# Altium schematic symbol library kmilo17pet-LT_OpAmp_LT2000.SchLib: 1710 symbols (part 57 of 75)
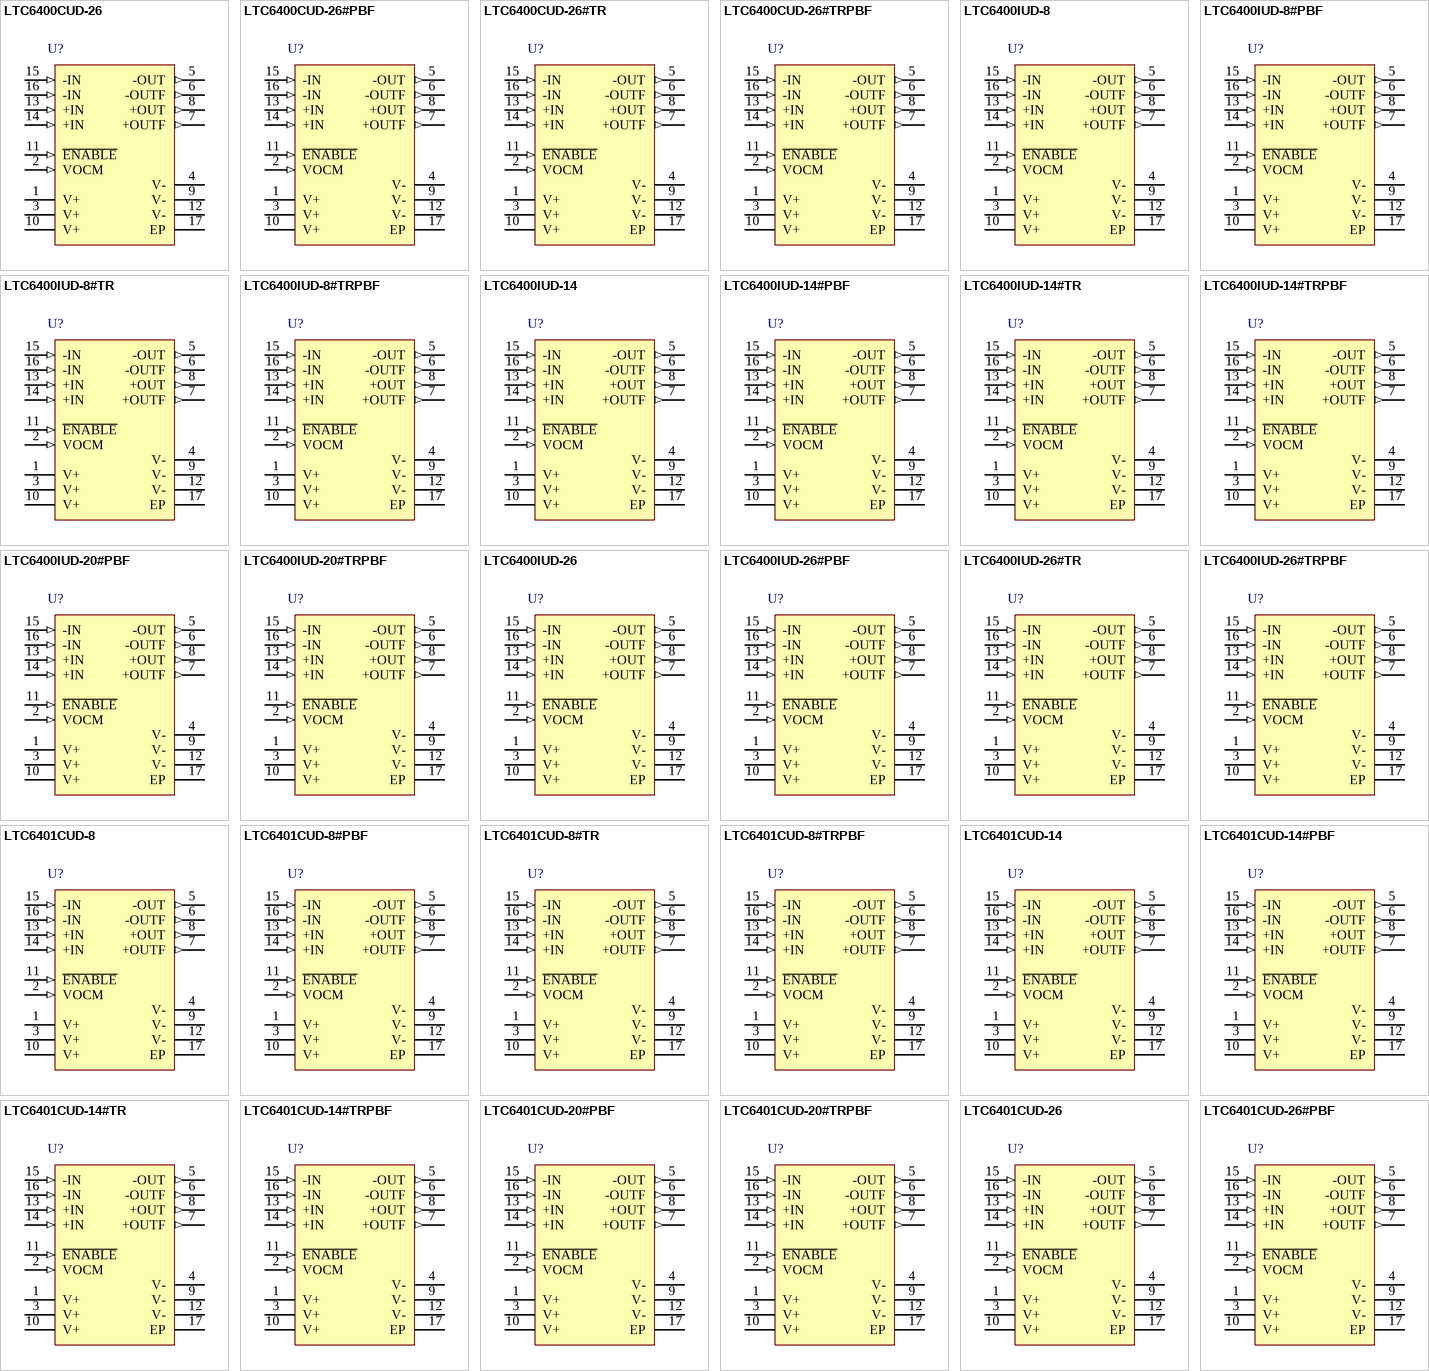
[diagram p136: symbols LTC6400CUD-26 to LTC6401CUD-26#PBF]

## LTC6401CUD-8#TRPBF
designator U?
Single Channel, Low Noise, Low Distortion Differential ADC Driver for DC-140 MHz, 2200 MHz Typical GBW, 3400 V/us Typical SR, 2.85 to 3.5 V, 16-Pin QFN (UD-16), Commercial, Pb-Free, Reel; Linear Technology Part Number: LTC6401-8; Manufacturer: Linear Technology; PartNumber: LTC6401CUD-8#TRPBF; Channels (#): 1; GBW (MHz) Typical: 2200; Is (mA) Typical: 45; SR (V/us) Typical: 3400; Vos (mV) Typical: 4; Vs Max (V): 3.5; Vs Min (V): 2.85; PackageReference: LT-UD-16; PackageDescription: 16-Lead Plastic QFN, Body 3.00 x 3.00 mm, Pitch 0.5 mm; Supplier 1: Digi-Key; Supplier Part Number 1: LTC6401CUD-8#TRPBF-ND; Supplier 2: Newark; Supplier Part Number 2: 75M4554; Packing: Reel; RoHS: Pb-Free; Type: DIFF; Mounting Technology: Surface Mount; Code_JEDEC: MO-220; ComponentLink1Description: Manufacturer URL; ComponentLink1URL: http://www.linear.com/; ComponentLink2Description: Datasheet; ComponentLink2URL: http://cds.linear.com/docs/en/datasheet/64018f.pdf; ComponentLink3Description: Package Specification; ComponentLink3URL: http://cds.linear.com/docs/en/packaging/QFN_16_05-08-1691.pdf
footprint LT-UD-16_N (QFN, 16-Leads, Body 3x3mm, Pitch 0.5mm, Thermal Pad 1.45x1.45mm, IPC Medium Density)
footprint LT-UD-16_L (QFN, 16-Leads, Body 3x3mm, Pitch 0.5mm, Thermal Pad 1.45x1.45mm, IPC High Density)
footprint LT-UD-16_M (QFN, 16-Leads, Body 3x3mm, Pitch 0.5mm, Thermal Pad 1.45x1.45mm, IPC Low Density)
pins: 1 V+ (power) "Positive Power Supply (Normally tied to 3V or 3.3V). All three pins must be tied to the same voltage. Bypass each pin with 1000pF and 0.1uF capacitors as close to the pins as possible.", 2 VOCM (in) "This pin sets the output common mode voltage. A 0.1uF external bypass capacitor is recommended.", 3 V+ (power) "Positive Power Supply (Normally tied to 3V or 3.3V). All three pins must be tied to the same voltage. Bypass each pin with 1000pF and 0.1uF capacitors as close to the pins as possible.", 4 V- (power) "Negative Power Supply. All four pins must be connected to the same voltage/ground.", 5 -OUT (out) "Unfiltered Outputs. These pins have 12.5ohm series resistors.", 6 -OUTF (out) "Filtered Outputs. These pins have 50ohm series resistors and a 1.7pF shunt capacitance.", 7 +OUTF (out) "Filtered Outputs. These pins have 50ohm series resistors and a 1.7pF shunt capacitance.", 8 +OUT (out) "Unfiltered Outputs. These pins have 12.5ohm series resistors.", 9 V- (power) "Negative Power Supply. All four pins must be connected to the same voltage/ground.", 10 V+ (power) "Positive Power Supply (Normally tied to 3V or 3.3V). All three pins must be tied to the same voltage. Bypass each pin with 1000pF and 0.1uF capacitors as close to the pins as possible.", 11 ~{ENABLE} (in) "This pin is a logic input referenced to V-. If low, the part is enabled. If high, the part is disabled and draws approximately 1mA supply current.", 12 V- (power) "Negative Power Supply. All four pins must be connected to the same voltage/ground.", 13 +IN (in) "Positive Input. Pins 13 and 14 are internally shorted together.", 14 +IN (in) "Positive Input. Pins 13 and 14 are internally shorted together.", 15 -IN (in) "Negative Input. Pins 15 and 16 are internally shorted together.", 16 -IN (in) "Negative Input. Pins 15 and 16 are internally shorted together.", 17 EP (power) "The Exposed Pad must be connected to the same voltage/ground as pins 4, 9, 12."

## LTC6401CUD-14
designator U?
Single Channel, Low Noise, Low Distortion Differential ADC Driver for DC-140 MHz, 2000 MHz Typical GBW, 3600 V/us Typical SR, 2.85 to 3.5 V, 16-Pin QFN (UD-16), Commercial; Linear Technology Part Number: LTC6401-14; Manufacturer: Linear Technology; PartNumber: LTC6401CUD-14; Channels (#): 1; GBW (MHz) Typical: 2000; Is (mA) Typical: 45; SR (V/us) Typical: 3600; Vos (mV) Typical: 3; Vs Max (V): 3.5; Vs Min (V): 2.85; PackageReference: LT-UD-16; PackageDescription: 16-Lead Plastic QFN, Body 3.00 x 3.00 mm, Pitch 0.5 mm; Type: DIFF; Mounting Technology: Surface Mount; Code_JEDEC: MO-220; ComponentLink1Description: Manufacturer URL; ComponentLink1URL: http://www.linear.com/; ComponentLink2Description: Datasheet; ComponentLink2URL: http://cds.linear.com/docs/en/datasheet/640114f.pdf; ComponentLink3Description: Package Specification; ComponentLink3URL: http://cds.linear.com/docs/en/packaging/QFN_16_05-08-1691.pdf
footprint LT-UD-16_N (QFN, 16-Leads, Body 3x3mm, Pitch 0.5mm, Thermal Pad 1.45x1.45mm, IPC Medium Density)
footprint LT-UD-16_L (QFN, 16-Leads, Body 3x3mm, Pitch 0.5mm, Thermal Pad 1.45x1.45mm, IPC High Density)
footprint LT-UD-16_M (QFN, 16-Leads, Body 3x3mm, Pitch 0.5mm, Thermal Pad 1.45x1.45mm, IPC Low Density)
pins: 1 V+ (power) "Positive Power Supply (Normally tied to 3V or 3.3V). All three pins must be tied to the same voltage. Bypass each pin with 1000pF and 0.1uF capacitors as close to the pins as possible.", 2 VOCM (in) "This pin sets the output common mode voltage. A 0.1uF external bypass capacitor is recommended.", 3 V+ (power) "Positive Power Supply (Normally tied to 3V or 3.3V). All three pins must be tied to the same voltage. Bypass each pin with 1000pF and 0.1uF capacitors as close to the pins as possible.", 4 V- (power) "Negative Power Supply. All four pins must be connected to the same voltage/ground.", 5 -OUT (out) "Unfiltered Outputs. These pins have 12.5ohm series resistors.", 6 -OUTF (out) "Filtered Outputs. These pins have 50ohm series resistors and a 1.7pF shunt capacitance.", 7 +OUTF (out) "Filtered Outputs. These pins have 50ohm series resistors and a 1.7pF shunt capacitance.", 8 +OUT (out) "Unfiltered Outputs. These pins have 12.5ohm series resistors.", 9 V- (power) "Negative Power Supply. All four pins must be connected to the same voltage/ground.", 10 V+ (power) "Positive Power Supply (Normally tied to 3V or 3.3V). All three pins must be tied to the same voltage. Bypass each pin with 1000pF and 0.1uF capacitors as close to the pins as possible.", 11 ~{ENABLE} (in) "This pin is a logic input referenced to V-. If low, the part is enabled. If high, the part is disabled and draws approximately 1mA supply current.", 12 V- (power) "Negative Power Supply. All four pins must be connected to the same voltage/ground.", 13 +IN (in) "Positive Input. Pins 13 and 14 are internally shorted together.", 14 +IN (in) "Positive Input. Pins 13 and 14 are internally shorted together.", 15 -IN (in) "Negative Input. Pins 15 and 16 are internally shorted together.", 16 -IN (in) "Negative Input. Pins 15 and 16 are internally shorted together.", 17 EP (power) "The Exposed Pad must be connected to the same voltage/ground as pins 4, 9, 12."

## LTC6401CUD-14#PBF
designator U?
Single Channel, Low Noise, Low Distortion Differential ADC Driver for DC-140 MHz, 2000 MHz Typical GBW, 3600 V/us Typical SR, 2.85 to 3.5 V, 16-Pin QFN (UD-16), Commercial, Pb-Free; Linear Technology Part Number: LTC6401-14; Manufacturer: Linear Technology; PartNumber: LTC6401CUD-14#PBF; Channels (#): 1; GBW (MHz) Typical: 2000; Is (mA) Typical: 45; SR (V/us) Typical: 3600; Vos (mV) Typical: 3; Vs Max (V): 3.5; Vs Min (V): 2.85; PackageReference: LT-UD-16; PackageDescription: 16-Lead Plastic QFN, Body 3.00 x 3.00 mm, Pitch 0.5 mm; Supplier 1: Digi-Key; Supplier Part Number 1: LTC6401CUD-14#PBF-ND; Supplier 2: Newark; Supplier Part Number 2: 95M6528; RoHS: Pb-Free; Type: DIFF; Mounting Technology: Surface Mount; Code_JEDEC: MO-220; ComponentLink1Description: Manufacturer URL; ComponentLink1URL: http://www.linear.com/; ComponentLink2Description: Datasheet; ComponentLink2URL: http://cds.linear.com/docs/en/datasheet/640114f.pdf; ComponentLink3Description: Package Specification; ComponentLink3URL: http://cds.linear.com/docs/en/packaging/QFN_16_05-08-1691.pdf
footprint LT-UD-16_N (QFN, 16-Leads, Body 3x3mm, Pitch 0.5mm, Thermal Pad 1.45x1.45mm, IPC Medium Density)
footprint LT-UD-16_L (QFN, 16-Leads, Body 3x3mm, Pitch 0.5mm, Thermal Pad 1.45x1.45mm, IPC High Density)
footprint LT-UD-16_M (QFN, 16-Leads, Body 3x3mm, Pitch 0.5mm, Thermal Pad 1.45x1.45mm, IPC Low Density)
pins: 1 V+ (power) "Positive Power Supply (Normally tied to 3V or 3.3V). All three pins must be tied to the same voltage. Bypass each pin with 1000pF and 0.1uF capacitors as close to the pins as possible.", 2 VOCM (in) "This pin sets the output common mode voltage. A 0.1uF external bypass capacitor is recommended.", 3 V+ (power) "Positive Power Supply (Normally tied to 3V or 3.3V). All three pins must be tied to the same voltage. Bypass each pin with 1000pF and 0.1uF capacitors as close to the pins as possible.", 4 V- (power) "Negative Power Supply. All four pins must be connected to the same voltage/ground.", 5 -OUT (out) "Unfiltered Outputs. These pins have 12.5ohm series resistors.", 6 -OUTF (out) "Filtered Outputs. These pins have 50ohm series resistors and a 1.7pF shunt capacitance.", 7 +OUTF (out) "Filtered Outputs. These pins have 50ohm series resistors and a 1.7pF shunt capacitance.", 8 +OUT (out) "Unfiltered Outputs. These pins have 12.5ohm series resistors.", 9 V- (power) "Negative Power Supply. All four pins must be connected to the same voltage/ground.", 10 V+ (power) "Positive Power Supply (Normally tied to 3V or 3.3V). All three pins must be tied to the same voltage. Bypass each pin with 1000pF and 0.1uF capacitors as close to the pins as possible.", 11 ~{ENABLE} (in) "This pin is a logic input referenced to V-. If low, the part is enabled. If high, the part is disabled and draws approximately 1mA supply current.", 12 V- (power) "Negative Power Supply. All four pins must be connected to the same voltage/ground.", 13 +IN (in) "Positive Input. Pins 13 and 14 are internally shorted together.", 14 +IN (in) "Positive Input. Pins 13 and 14 are internally shorted together.", 15 -IN (in) "Negative Input. Pins 15 and 16 are internally shorted together.", 16 -IN (in) "Negative Input. Pins 15 and 16 are internally shorted together.", 17 EP (power) "The Exposed Pad must be connected to the same voltage/ground as pins 4, 9, 12."

## LTC6401CUD-14#TR
designator U?
Single Channel, Low Noise, Low Distortion Differential ADC Driver for DC-140 MHz, 2000 MHz Typical GBW, 3600 V/us Typical SR, 2.85 to 3.5 V, 16-Pin QFN (UD-16), Commercial, Reel; Linear Technology Part Number: LTC6401-14; Manufacturer: Linear Technology; PartNumber: LTC6401CUD-14#TR; Channels (#): 1; GBW (MHz) Typical: 2000; Is (mA) Typical: 45; SR (V/us) Typical: 3600; Vos (mV) Typical: 3; Vs Max (V): 3.5; Vs Min (V): 2.85; PackageReference: LT-UD-16; PackageDescription: 16-Lead Plastic QFN, Body 3.00 x 3.00 mm, Pitch 0.5 mm; Supplier 1: Newark; Supplier Part Number 1: 95M6529; Packing: Reel; Type: DIFF; Mounting Technology: Surface Mount; Code_JEDEC: MO-220; ComponentLink1Description: Manufacturer URL; ComponentLink1URL: http://www.linear.com/; ComponentLink2Description: Datasheet; ComponentLink2URL: http://cds.linear.com/docs/en/datasheet/640114f.pdf; ComponentLink3Description: Package Specification; ComponentLink3URL: http://cds.linear.com/docs/en/packaging/QFN_16_05-08-1691.pdf
footprint LT-UD-16_N (QFN, 16-Leads, Body 3x3mm, Pitch 0.5mm, Thermal Pad 1.45x1.45mm, IPC Medium Density)
footprint LT-UD-16_L (QFN, 16-Leads, Body 3x3mm, Pitch 0.5mm, Thermal Pad 1.45x1.45mm, IPC High Density)
footprint LT-UD-16_M (QFN, 16-Leads, Body 3x3mm, Pitch 0.5mm, Thermal Pad 1.45x1.45mm, IPC Low Density)
pins: 1 V+ (power) "Positive Power Supply (Normally tied to 3V or 3.3V). All three pins must be tied to the same voltage. Bypass each pin with 1000pF and 0.1uF capacitors as close to the pins as possible.", 2 VOCM (in) "This pin sets the output common mode voltage. A 0.1uF external bypass capacitor is recommended.", 3 V+ (power) "Positive Power Supply (Normally tied to 3V or 3.3V). All three pins must be tied to the same voltage. Bypass each pin with 1000pF and 0.1uF capacitors as close to the pins as possible.", 4 V- (power) "Negative Power Supply. All four pins must be connected to the same voltage/ground.", 5 -OUT (out) "Unfiltered Outputs. These pins have 12.5ohm series resistors.", 6 -OUTF (out) "Filtered Outputs. These pins have 50ohm series resistors and a 1.7pF shunt capacitance.", 7 +OUTF (out) "Filtered Outputs. These pins have 50ohm series resistors and a 1.7pF shunt capacitance.", 8 +OUT (out) "Unfiltered Outputs. These pins have 12.5ohm series resistors.", 9 V- (power) "Negative Power Supply. All four pins must be connected to the same voltage/ground.", 10 V+ (power) "Positive Power Supply (Normally tied to 3V or 3.3V). All three pins must be tied to the same voltage. Bypass each pin with 1000pF and 0.1uF capacitors as close to the pins as possible.", 11 ~{ENABLE} (in) "This pin is a logic input referenced to V-. If low, the part is enabled. If high, the part is disabled and draws approximately 1mA supply current.", 12 V- (power) "Negative Power Supply. All four pins must be connected to the same voltage/ground.", 13 +IN (in) "Positive Input. Pins 13 and 14 are internally shorted together.", 14 +IN (in) "Positive Input. Pins 13 and 14 are internally shorted together.", 15 -IN (in) "Negative Input. Pins 15 and 16 are internally shorted together.", 16 -IN (in) "Negative Input. Pins 15 and 16 are internally shorted together.", 17 EP (power) "The Exposed Pad must be connected to the same voltage/ground as pins 4, 9, 12."

## LTC6401CUD-14#TRPBF
designator U?
Single Channel, Low Noise, Low Distortion Differential ADC Driver for DC-140 MHz, 2000 MHz Typical GBW, 3600 V/us Typical SR, 2.85 to 3.5 V, 16-Pin QFN (UD-16), Commercial, Pb-Free, Reel; Linear Technology Part Number: LTC6401-14; Manufacturer: Linear Technology; PartNumber: LTC6401CUD-14#TRPBF; Channels (#): 1; GBW (MHz) Typical: 2000; Is (mA) Typical: 45; SR (V/us) Typical: 3600; Vos (mV) Typical: 3; Vs Max (V): 3.5; Vs Min (V): 2.85; PackageReference: LT-UD-16; PackageDescription: 16-Lead Plastic QFN, Body 3.00 x 3.00 mm, Pitch 0.5 mm; Supplier 1: Digi-Key; Supplier Part Number 1: LTC6401CUD-14#TRPBF-ND; Supplier 2: Newark; Supplier Part Number 2: 95M6530; Packing: Reel; RoHS: Pb-Free; Type: DIFF; Mounting Technology: Surface Mount; Code_JEDEC: MO-220; ComponentLink1Description: Manufacturer URL; ComponentLink1URL: http://www.linear.com/; ComponentLink2Description: Datasheet; ComponentLink2URL: http://cds.linear.com/docs/en/datasheet/640114f.pdf; ComponentLink3Description: Package Specification; ComponentLink3URL: http://cds.linear.com/docs/en/packaging/QFN_16_05-08-1691.pdf
footprint LT-UD-16_N (QFN, 16-Leads, Body 3x3mm, Pitch 0.5mm, Thermal Pad 1.45x1.45mm, IPC Medium Density)
footprint LT-UD-16_L (QFN, 16-Leads, Body 3x3mm, Pitch 0.5mm, Thermal Pad 1.45x1.45mm, IPC High Density)
footprint LT-UD-16_M (QFN, 16-Leads, Body 3x3mm, Pitch 0.5mm, Thermal Pad 1.45x1.45mm, IPC Low Density)
pins: 1 V+ (power) "Positive Power Supply (Normally tied to 3V or 3.3V). All three pins must be tied to the same voltage. Bypass each pin with 1000pF and 0.1uF capacitors as close to the pins as possible.", 2 VOCM (in) "This pin sets the output common mode voltage. A 0.1uF external bypass capacitor is recommended.", 3 V+ (power) "Positive Power Supply (Normally tied to 3V or 3.3V). All three pins must be tied to the same voltage. Bypass each pin with 1000pF and 0.1uF capacitors as close to the pins as possible.", 4 V- (power) "Negative Power Supply. All four pins must be connected to the same voltage/ground.", 5 -OUT (out) "Unfiltered Outputs. These pins have 12.5ohm series resistors.", 6 -OUTF (out) "Filtered Outputs. These pins have 50ohm series resistors and a 1.7pF shunt capacitance.", 7 +OUTF (out) "Filtered Outputs. These pins have 50ohm series resistors and a 1.7pF shunt capacitance.", 8 +OUT (out) "Unfiltered Outputs. These pins have 12.5ohm series resistors.", 9 V- (power) "Negative Power Supply. All four pins must be connected to the same voltage/ground.", 10 V+ (power) "Positive Power Supply (Normally tied to 3V or 3.3V). All three pins must be tied to the same voltage. Bypass each pin with 1000pF and 0.1uF capacitors as close to the pins as possible.", 11 ~{ENABLE} (in) "This pin is a logic input referenced to V-. If low, the part is enabled. If high, the part is disabled and draws approximately 1mA supply current.", 12 V- (power) "Negative Power Supply. All four pins must be connected to the same voltage/ground.", 13 +IN (in) "Positive Input. Pins 13 and 14 are internally shorted together.", 14 +IN (in) "Positive Input. Pins 13 and 14 are internally shorted together.", 15 -IN (in) "Negative Input. Pins 15 and 16 are internally shorted together.", 16 -IN (in) "Negative Input. Pins 15 and 16 are internally shorted together.", 17 EP (power) "The Exposed Pad must be connected to the same voltage/ground as pins 4, 9, 12."

## LTC6401CUD-20#PBF
designator U?
Single Channel, Low Noise, Low Distortion Differential ADC Driver for 140 MHz IF, 1300 MHz Typical GBW, 4500 V/us Typical SR, 2.85 to 3.5 V, 16-Pin QFN (UD-16), Commercial, Pb-Free; Linear Technology Part Number: LTC6401-20; Manufacturer: Linear Technology; PartNumber: LTC6401CUD-20#PBF; Channels (#): 1; GBW (MHz) Typical: 1300; Is (mA) Typical: 50; SR (V/us) Typical: 4500; Vos (mV) Typical: 2; Vs Max (V): 3.5; Vs Min (V): 2.85; PackageReference: LT-UD-16; PackageDescription: 16-Lead Plastic QFN, Body 3.00 x 3.00 mm, Pitch 0.5 mm; Supplier 1: Digi-Key; Supplier Part Number 1: LTC6401CUD-20#PBF-ND; Supplier 2: Newark; Supplier Part Number 2: 57M0114; RoHS: Pb-Free; Type: DIFF; Mounting Technology: Surface Mount; Code_JEDEC: MO-220; ComponentLink1Description: Manufacturer URL; ComponentLink1URL: http://www.linear.com/; ComponentLink2Description: Datasheet; ComponentLink2URL: http://cds.linear.com/docs/en/datasheet/640120f.pdf; ComponentLink3Description: Package Specification; ComponentLink3URL: http://cds.linear.com/docs/en/packaging/QFN_16_05-08-1691.pdf
footprint LT-UD-16_N (QFN, 16-Leads, Body 3x3mm, Pitch 0.5mm, Thermal Pad 1.45x1.45mm, IPC Medium Density)
footprint LT-UD-16_L (QFN, 16-Leads, Body 3x3mm, Pitch 0.5mm, Thermal Pad 1.45x1.45mm, IPC High Density)
footprint LT-UD-16_M (QFN, 16-Leads, Body 3x3mm, Pitch 0.5mm, Thermal Pad 1.45x1.45mm, IPC Low Density)
pins: 1 V+ (power) "Positive Power Supply (Normally tied to 3V or 3.3V). All three pins must be tied to the same voltage. Bypass each pin with 1000pF and 0.1uF capacitors as close to the pins as possible.", 2 VOCM (in) "This pin sets the output common mode voltage. A 0.1uF external bypass capacitor is recommended.", 3 V+ (power) "Positive Power Supply (Normally tied to 3V or 3.3V). All three pins must be tied to the same voltage. Bypass each pin with 1000pF and 0.1uF capacitors as close to the pins as possible.", 4 V- (power) "Negative Power Supply. All four pins must be connected to the same voltage/ground.", 5 -OUT (out) "Unfiltered Outputs. These pins have 12.5ohm series resistors.", 6 -OUTF (out) "Filtered Outputs. These pins have 50ohm series resistors and a 1.7pF shunt capacitance.", 7 +OUTF (out) "Filtered Outputs. These pins have 50ohm series resistors and a 1.7pF shunt capacitance.", 8 +OUT (out) "Unfiltered Outputs. These pins have 12.5ohm series resistors.", 9 V- (power) "Negative Power Supply. All four pins must be connected to the same voltage/ground.", 10 V+ (power) "Positive Power Supply (Normally tied to 3V or 3.3V). All three pins must be tied to the same voltage. Bypass each pin with 1000pF and 0.1uF capacitors as close to the pins as possible.", 11 ~{ENABLE} (in) "This pin is a logic input referenced to V-. If low, the part is enabled. If high, the part is disabled and draws approximately 1mA supply current.", 12 V- (power) "Negative Power Supply. All four pins must be connected to the same voltage/ground.", 13 +IN (in) "Positive Input. Pins 13 and 14 are internally shorted together.", 14 +IN (in) "Positive Input. Pins 13 and 14 are internally shorted together.", 15 -IN (in) "Negative Input. Pins 15 and 16 are internally shorted together.", 16 -IN (in) "Negative Input. Pins 15 and 16 are internally shorted together.", 17 EP (power) "The Exposed Pad must be connected to the same voltage/ground as pins 4, 9, 12."

## LTC6401CUD-20#TRPBF
designator U?
Single Channel, Low Noise, Low Distortion Differential ADC Driver for 140 MHz IF, 1300 MHz Typical GBW, 4500 V/us Typical SR, 2.85 to 3.5 V, 16-Pin QFN (UD-16), Commercial, Pb-Free, Reel; Linear Technology Part Number: LTC6401-20; Manufacturer: Linear Technology; PartNumber: LTC6401CUD-20#TRPBF; Channels (#): 1; GBW (MHz) Typical: 1300; Is (mA) Typical: 50; SR (V/us) Typical: 4500; Vos (mV) Typical: 2; Vs Max (V): 3.5; Vs Min (V): 2.85; PackageReference: LT-UD-16; PackageDescription: 16-Lead Plastic QFN, Body 3.00 x 3.00 mm, Pitch 0.5 mm; Supplier 1: Digi-Key; Supplier Part Number 1: LTC6401CUD-20#TRPBF-ND; Supplier 2: Newark; Supplier Part Number 2: 57M0115; Packing: Reel; RoHS: Pb-Free; Type: DIFF; Mounting Technology: Surface Mount; Code_JEDEC: MO-220; ComponentLink1Description: Manufacturer URL; ComponentLink1URL: http://www.linear.com/; ComponentLink2Description: Datasheet; ComponentLink2URL: http://cds.linear.com/docs/en/datasheet/640120f.pdf; ComponentLink3Description: Package Specification; ComponentLink3URL: http://cds.linear.com/docs/en/packaging/QFN_16_05-08-1691.pdf
footprint LT-UD-16_N (QFN, 16-Leads, Body 3x3mm, Pitch 0.5mm, Thermal Pad 1.45x1.45mm, IPC Medium Density)
footprint LT-UD-16_L (QFN, 16-Leads, Body 3x3mm, Pitch 0.5mm, Thermal Pad 1.45x1.45mm, IPC High Density)
footprint LT-UD-16_M (QFN, 16-Leads, Body 3x3mm, Pitch 0.5mm, Thermal Pad 1.45x1.45mm, IPC Low Density)
pins: 1 V+ (power) "Positive Power Supply (Normally tied to 3V or 3.3V). All three pins must be tied to the same voltage. Bypass each pin with 1000pF and 0.1uF capacitors as close to the pins as possible.", 2 VOCM (in) "This pin sets the output common mode voltage. A 0.1uF external bypass capacitor is recommended.", 3 V+ (power) "Positive Power Supply (Normally tied to 3V or 3.3V). All three pins must be tied to the same voltage. Bypass each pin with 1000pF and 0.1uF capacitors as close to the pins as possible.", 4 V- (power) "Negative Power Supply. All four pins must be connected to the same voltage/ground.", 5 -OUT (out) "Unfiltered Outputs. These pins have 12.5ohm series resistors.", 6 -OUTF (out) "Filtered Outputs. These pins have 50ohm series resistors and a 1.7pF shunt capacitance.", 7 +OUTF (out) "Filtered Outputs. These pins have 50ohm series resistors and a 1.7pF shunt capacitance.", 8 +OUT (out) "Unfiltered Outputs. These pins have 12.5ohm series resistors.", 9 V- (power) "Negative Power Supply. All four pins must be connected to the same voltage/ground.", 10 V+ (power) "Positive Power Supply (Normally tied to 3V or 3.3V). All three pins must be tied to the same voltage. Bypass each pin with 1000pF and 0.1uF capacitors as close to the pins as possible.", 11 ~{ENABLE} (in) "This pin is a logic input referenced to V-. If low, the part is enabled. If high, the part is disabled and draws approximately 1mA supply current.", 12 V- (power) "Negative Power Supply. All four pins must be connected to the same voltage/ground.", 13 +IN (in) "Positive Input. Pins 13 and 14 are internally shorted together.", 14 +IN (in) "Positive Input. Pins 13 and 14 are internally shorted together.", 15 -IN (in) "Negative Input. Pins 15 and 16 are internally shorted together.", 16 -IN (in) "Negative Input. Pins 15 and 16 are internally shorted together.", 17 EP (power) "The Exposed Pad must be connected to the same voltage/ground as pins 4, 9, 12."

## LTC6401CUD-26
designator U?
Single Channel, Low Noise, Low Distortion Differential ADC Driver for DC-140 MHz, 1600 MHz Typical GBW, 3300 V/us Typical SR, 2.85 to 3.5 V, 16-Pin QFN (UD-16), Commercial; Linear Technology Part Number: LTC6401-26; Manufacturer: Linear Technology; PartNumber: LTC6401CUD-26; Channels (#): 1; GBW (MHz) Typical: 1600; Is (mA) Typical: 45; SR (V/us) Typical: 3300; Vos (mV) Typical: 2.5; Vs Max (V): 3.5; Vs Min (V): 2.85; PackageReference: LT-UD-16; PackageDescription: 16-Lead Plastic QFN, Body 3.00 x 3.00 mm, Pitch 0.5 mm; Type: DIFF; Mounting Technology: Surface Mount; Code_JEDEC: MO-220; ComponentLink1Description: Manufacturer URL; ComponentLink1URL: http://www.linear.com/; ComponentLink2Description: Datasheet; ComponentLink2URL: http://cds.linear.com/docs/en/datasheet/640126f.pdf; ComponentLink3Description: Package Specification; ComponentLink3URL: http://cds.linear.com/docs/en/packaging/QFN_16_05-08-1691.pdf
footprint LT-UD-16_N (QFN, 16-Leads, Body 3x3mm, Pitch 0.5mm, Thermal Pad 1.45x1.45mm, IPC Medium Density)
footprint LT-UD-16_L (QFN, 16-Leads, Body 3x3mm, Pitch 0.5mm, Thermal Pad 1.45x1.45mm, IPC High Density)
footprint LT-UD-16_M (QFN, 16-Leads, Body 3x3mm, Pitch 0.5mm, Thermal Pad 1.45x1.45mm, IPC Low Density)
pins: 1 V+ (power) "Positive Power Supply (Normally tied to 3V or 3.3V). All three pins must be tied to the same voltage. Bypass each pin with 1000pF and 0.1uF capacitors as close to the pins as possible.", 2 VOCM (in) "This pin sets the output common mode voltage. A 0.1uF external bypass capacitor is recommended.", 3 V+ (power) "Positive Power Supply (Normally tied to 3V or 3.3V). All three pins must be tied to the same voltage. Bypass each pin with 1000pF and 0.1uF capacitors as close to the pins as possible.", 4 V- (power) "Negative Power Supply. All four pins must be connected to the same voltage/ground.", 5 -OUT (out) "Unfiltered Outputs. These pins have 12.5ohm series resistors.", 6 -OUTF (out) "Filtered Outputs. These pins have 50ohm series resistors and a 1.7pF shunt capacitance.", 7 +OUTF (out) "Filtered Outputs. These pins have 50ohm series resistors and a 1.7pF shunt capacitance.", 8 +OUT (out) "Unfiltered Outputs. These pins have 12.5ohm series resistors.", 9 V- (power) "Negative Power Supply. All four pins must be connected to the same voltage/ground.", 10 V+ (power) "Positive Power Supply (Normally tied to 3V or 3.3V). All three pins must be tied to the same voltage. Bypass each pin with 1000pF and 0.1uF capacitors as close to the pins as possible.", 11 ~{ENABLE} (in) "This pin is a logic input referenced to V-. If low, the part is enabled. If high, the part is disabled and draws approximately 1mA supply current.", 12 V- (power) "Negative Power Supply. All four pins must be connected to the same voltage/ground.", 13 +IN (in) "Positive Input. Pins 13 and 14 are internally shorted together.", 14 +IN (in) "Positive Input. Pins 13 and 14 are internally shorted together.", 15 -IN (in) "Negative Input. Pins 15 and 16 are internally shorted together.", 16 -IN (in) "Negative Input. Pins 15 and 16 are internally shorted together.", 17 EP (power) "The Exposed Pad must be connected to the same voltage/ground as pins 4, 9, 12."

## LTC6401CUD-26#PBF
designator U?
Single Channel, Low Noise, Low Distortion Differential ADC Driver for DC-140 MHz, 1600 MHz Typical GBW, 3300 V/us Typical SR, 2.85 to 3.5 V, 16-Pin QFN (UD-16), Commercial, Pb-Free; Linear Technology Part Number: LTC6401-26; Manufacturer: Linear Technology; PartNumber: LTC6401CUD-26#PBF; Channels (#): 1; GBW (MHz) Typical: 1600; Is (mA) Typical: 45; SR (V/us) Typical: 3300; Vos (mV) Typical: 2.5; Vs Max (V): 3.5; Vs Min (V): 2.85; PackageReference: LT-UD-16; PackageDescription: 16-Lead Plastic QFN, Body 3.00 x 3.00 mm, Pitch 0.5 mm; Supplier 1: Digi-Key; Supplier Part Number 1: LTC6401CUD-26#PBF-ND; Supplier 2: Newark; Supplier Part Number 2: 57M0117; RoHS: Pb-Free; Type: DIFF; Mounting Technology: Surface Mount; Code_JEDEC: MO-220; ComponentLink1Description: Manufacturer URL; ComponentLink1URL: http://www.linear.com/; ComponentLink2Description: Datasheet; ComponentLink2URL: http://cds.linear.com/docs/en/datasheet/640126f.pdf; ComponentLink3Description: Package Specification; ComponentLink3URL: http://cds.linear.com/docs/en/packaging/QFN_16_05-08-1691.pdf
footprint LT-UD-16_N (QFN, 16-Leads, Body 3x3mm, Pitch 0.5mm, Thermal Pad 1.45x1.45mm, IPC Medium Density)
footprint LT-UD-16_L (QFN, 16-Leads, Body 3x3mm, Pitch 0.5mm, Thermal Pad 1.45x1.45mm, IPC High Density)
footprint LT-UD-16_M (QFN, 16-Leads, Body 3x3mm, Pitch 0.5mm, Thermal Pad 1.45x1.45mm, IPC Low Density)
pins: 1 V+ (power) "Positive Power Supply (Normally tied to 3V or 3.3V). All three pins must be tied to the same voltage. Bypass each pin with 1000pF and 0.1uF capacitors as close to the pins as possible.", 2 VOCM (in) "This pin sets the output common mode voltage. A 0.1uF external bypass capacitor is recommended.", 3 V+ (power) "Positive Power Supply (Normally tied to 3V or 3.3V). All three pins must be tied to the same voltage. Bypass each pin with 1000pF and 0.1uF capacitors as close to the pins as possible.", 4 V- (power) "Negative Power Supply. All four pins must be connected to the same voltage/ground.", 5 -OUT (out) "Unfiltered Outputs. These pins have 12.5ohm series resistors.", 6 -OUTF (out) "Filtered Outputs. These pins have 50ohm series resistors and a 1.7pF shunt capacitance.", 7 +OUTF (out) "Filtered Outputs. These pins have 50ohm series resistors and a 1.7pF shunt capacitance.", 8 +OUT (out) "Unfiltered Outputs. These pins have 12.5ohm series resistors.", 9 V- (power) "Negative Power Supply. All four pins must be connected to the same voltage/ground.", 10 V+ (power) "Positive Power Supply (Normally tied to 3V or 3.3V). All three pins must be tied to the same voltage. Bypass each pin with 1000pF and 0.1uF capacitors as close to the pins as possible.", 11 ~{ENABLE} (in) "This pin is a logic input referenced to V-. If low, the part is enabled. If high, the part is disabled and draws approximately 1mA supply current.", 12 V- (power) "Negative Power Supply. All four pins must be connected to the same voltage/ground.", 13 +IN (in) "Positive Input. Pins 13 and 14 are internally shorted together.", 14 +IN (in) "Positive Input. Pins 13 and 14 are internally shorted together.", 15 -IN (in) "Negative Input. Pins 15 and 16 are internally shorted together.", 16 -IN (in) "Negative Input. Pins 15 and 16 are internally shorted together.", 17 EP (power) "The Exposed Pad must be connected to the same voltage/ground as pins 4, 9, 12."

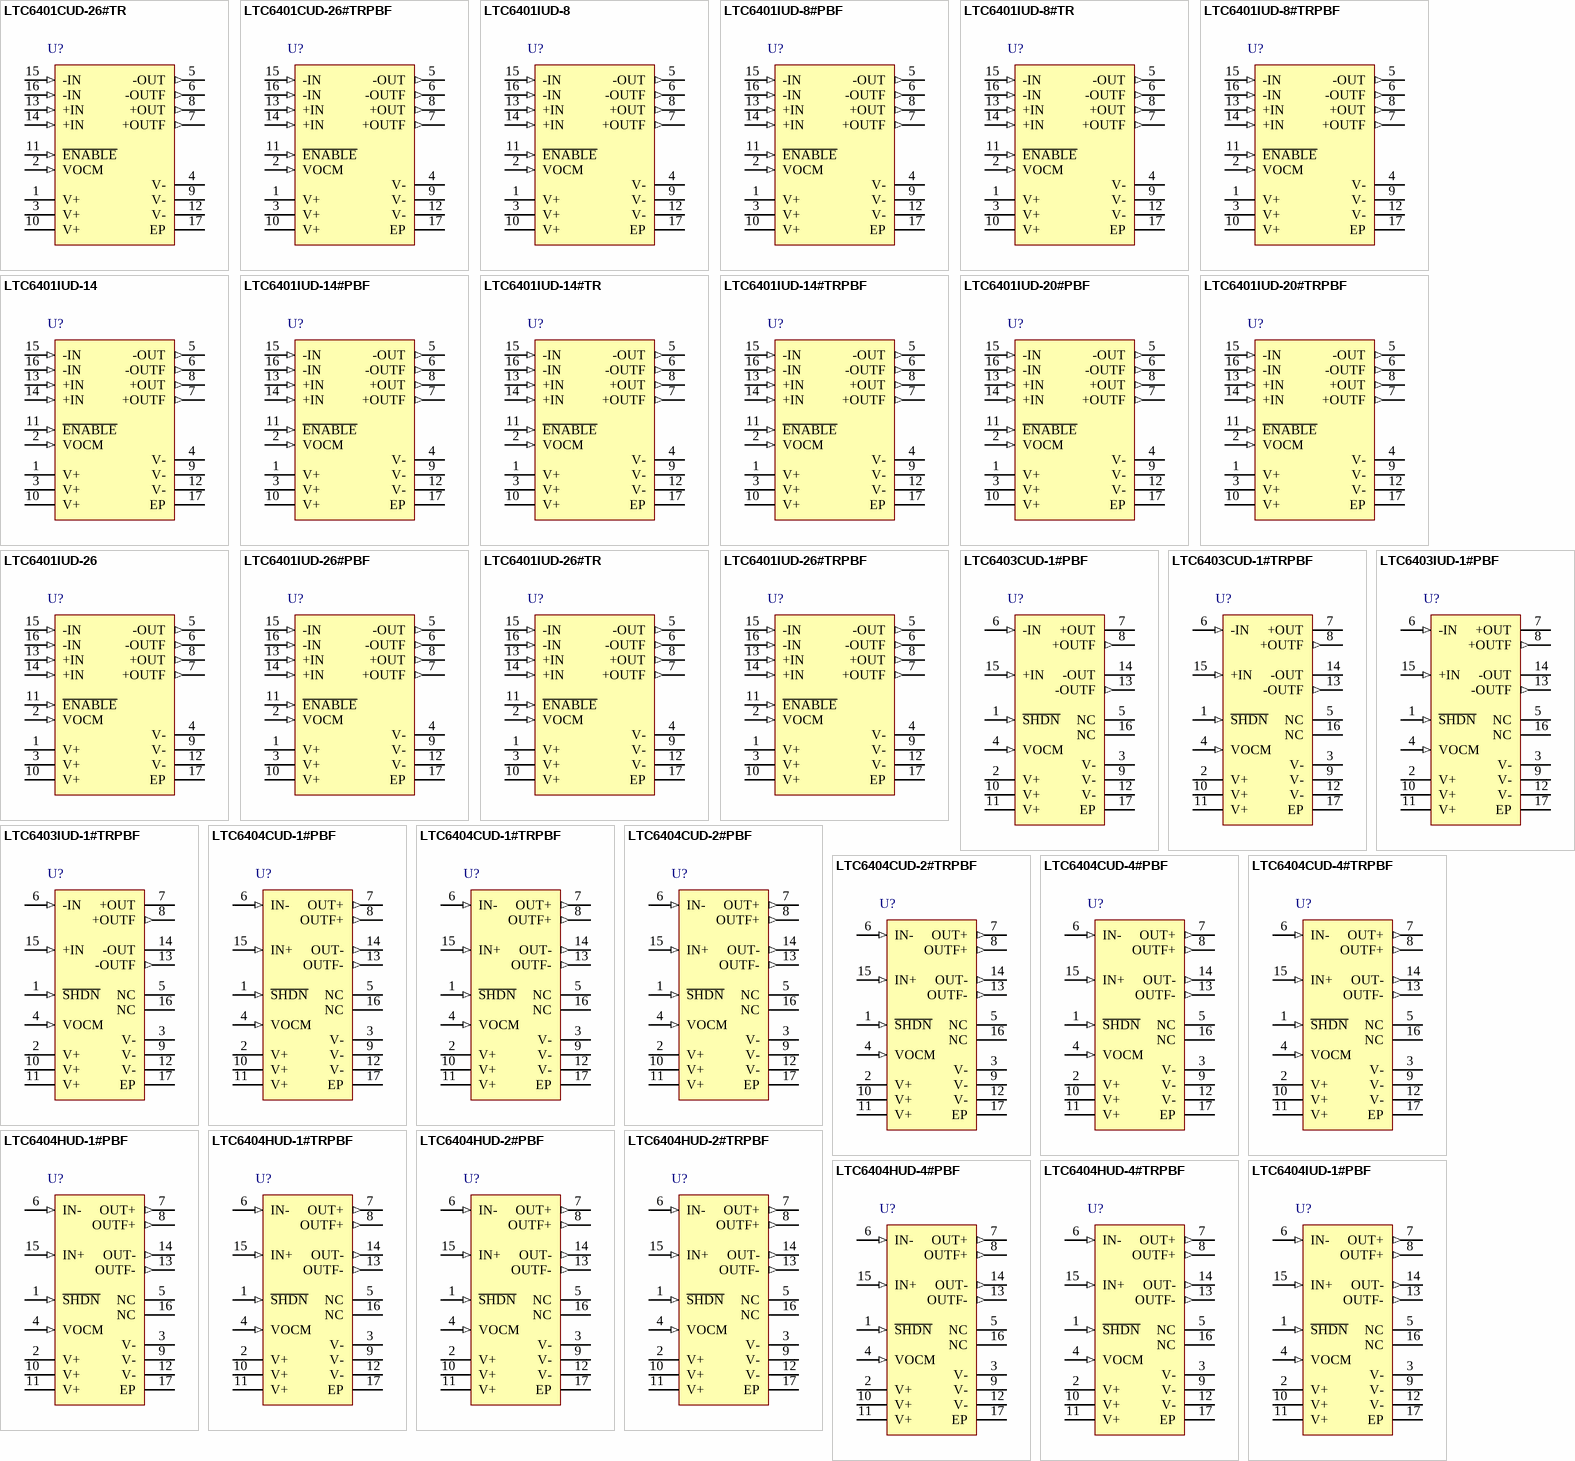
[diagram p73: symbols LTC6401CUD-26#TR to LTC6404IUD-1#PBF]

## LTC6401CUD-26#TR
designator U?
Single Channel, Low Noise, Low Distortion Differential ADC Driver for DC-140 MHz, 1600 MHz Typical GBW, 3300 V/us Typical SR, 2.85 to 3.5 V, 16-Pin QFN (UD-16), Commercial, Reel; Linear Technology Part Number: LTC6401-26; Manufacturer: Linear Technology; PartNumber: LTC6401CUD-26#TR; Channels (#): 1; GBW (MHz) Typical: 1600; Is (mA) Typical: 45; SR (V/us) Typical: 3300; Vos (mV) Typical: 2.5; Vs Max (V): 3.5; Vs Min (V): 2.85; PackageReference: LT-UD-16; PackageDescription: 16-Lead Plastic QFN, Body 3.00 x 3.00 mm, Pitch 0.5 mm; Supplier 1: Newark; Supplier Part Number 1: 57M0118; Packing: Reel; Type: DIFF; Mounting Technology: Surface Mount; Code_JEDEC: MO-220; ComponentLink1Description: Manufacturer URL; ComponentLink1URL: http://www.linear.com/; ComponentLink2Description: Datasheet; ComponentLink2URL: http://cds.linear.com/docs/en/datasheet/640126f.pdf; ComponentLink3Description: Package Specification; ComponentLink3URL: http://cds.linear.com/docs/en/packaging/QFN_16_05-08-1691.pdf
footprint LT-UD-16_N (QFN, 16-Leads, Body 3x3mm, Pitch 0.5mm, Thermal Pad 1.45x1.45mm, IPC Medium Density)
footprint LT-UD-16_L (QFN, 16-Leads, Body 3x3mm, Pitch 0.5mm, Thermal Pad 1.45x1.45mm, IPC High Density)
footprint LT-UD-16_M (QFN, 16-Leads, Body 3x3mm, Pitch 0.5mm, Thermal Pad 1.45x1.45mm, IPC Low Density)
pins: 1 V+ (power) "Positive Power Supply (Normally tied to 3V or 3.3V). All three pins must be tied to the same voltage. Bypass each pin with 1000pF and 0.1uF capacitors as close to the pins as possible.", 2 VOCM (in) "This pin sets the output common mode voltage. A 0.1uF external bypass capacitor is recommended.", 3 V+ (power) "Positive Power Supply (Normally tied to 3V or 3.3V). All three pins must be tied to the same voltage. Bypass each pin with 1000pF and 0.1uF capacitors as close to the pins as possible.", 4 V- (power) "Negative Power Supply. All four pins must be connected to the same voltage/ground.", 5 -OUT (out) "Unfiltered Outputs. These pins have 12.5ohm series resistors.", 6 -OUTF (out) "Filtered Outputs. These pins have 50ohm series resistors and a 1.7pF shunt capacitance.", 7 +OUTF (out) "Filtered Outputs. These pins have 50ohm series resistors and a 1.7pF shunt capacitance.", 8 +OUT (out) "Unfiltered Outputs. These pins have 12.5ohm series resistors.", 9 V- (power) "Negative Power Supply. All four pins must be connected to the same voltage/ground.", 10 V+ (power) "Positive Power Supply (Normally tied to 3V or 3.3V). All three pins must be tied to the same voltage. Bypass each pin with 1000pF and 0.1uF capacitors as close to the pins as possible.", 11 ~{ENABLE} (in) "This pin is a logic input referenced to V-. If low, the part is enabled. If high, the part is disabled and draws approximately 1mA supply current.", 12 V- (power) "Negative Power Supply. All four pins must be connected to the same voltage/ground.", 13 +IN (in) "Positive Input. Pins 13 and 14 are internally shorted together.", 14 +IN (in) "Positive Input. Pins 13 and 14 are internally shorted together.", 15 -IN (in) "Negative Input. Pins 15 and 16 are internally shorted together.", 16 -IN (in) "Negative Input. Pins 15 and 16 are internally shorted together.", 17 EP (power) "The Exposed Pad must be connected to the same voltage/ground as pins 4, 9, 12."

## LTC6401CUD-26#TRPBF
designator U?
Single Channel, Low Noise, Low Distortion Differential ADC Driver for DC-140 MHz, 1600 MHz Typical GBW, 3300 V/us Typical SR, 2.85 to 3.5 V, 16-Pin QFN (UD-16), Commercial, Pb-Free, Reel; Linear Technology Part Number: LTC6401-26; Manufacturer: Linear Technology; PartNumber: LTC6401CUD-26#TRPBF; Channels (#): 1; GBW (MHz) Typical: 1600; Is (mA) Typical: 45; SR (V/us) Typical: 3300; Vos (mV) Typical: 2.5; Vs Max (V): 3.5; Vs Min (V): 2.85; PackageReference: LT-UD-16; PackageDescription: 16-Lead Plastic QFN, Body 3.00 x 3.00 mm, Pitch 0.5 mm; Supplier 1: Digi-Key; Supplier Part Number 1: LTC6401CUD-26#TRPBF-ND; Supplier 2: Newark; Supplier Part Number 2: 57M0119; Packing: Reel; RoHS: Pb-Free; Type: DIFF; Mounting Technology: Surface Mount; Code_JEDEC: MO-220; ComponentLink1Description: Manufacturer URL; ComponentLink1URL: http://www.linear.com/; ComponentLink2Description: Datasheet; ComponentLink2URL: http://cds.linear.com/docs/en/datasheet/640126f.pdf; ComponentLink3Description: Package Specification; ComponentLink3URL: http://cds.linear.com/docs/en/packaging/QFN_16_05-08-1691.pdf
footprint LT-UD-16_N (QFN, 16-Leads, Body 3x3mm, Pitch 0.5mm, Thermal Pad 1.45x1.45mm, IPC Medium Density)
footprint LT-UD-16_L (QFN, 16-Leads, Body 3x3mm, Pitch 0.5mm, Thermal Pad 1.45x1.45mm, IPC High Density)
footprint LT-UD-16_M (QFN, 16-Leads, Body 3x3mm, Pitch 0.5mm, Thermal Pad 1.45x1.45mm, IPC Low Density)
pins: 1 V+ (power) "Positive Power Supply (Normally tied to 3V or 3.3V). All three pins must be tied to the same voltage. Bypass each pin with 1000pF and 0.1uF capacitors as close to the pins as possible.", 2 VOCM (in) "This pin sets the output common mode voltage. A 0.1uF external bypass capacitor is recommended.", 3 V+ (power) "Positive Power Supply (Normally tied to 3V or 3.3V). All three pins must be tied to the same voltage. Bypass each pin with 1000pF and 0.1uF capacitors as close to the pins as possible.", 4 V- (power) "Negative Power Supply. All four pins must be connected to the same voltage/ground.", 5 -OUT (out) "Unfiltered Outputs. These pins have 12.5ohm series resistors.", 6 -OUTF (out) "Filtered Outputs. These pins have 50ohm series resistors and a 1.7pF shunt capacitance.", 7 +OUTF (out) "Filtered Outputs. These pins have 50ohm series resistors and a 1.7pF shunt capacitance.", 8 +OUT (out) "Unfiltered Outputs. These pins have 12.5ohm series resistors.", 9 V- (power) "Negative Power Supply. All four pins must be connected to the same voltage/ground.", 10 V+ (power) "Positive Power Supply (Normally tied to 3V or 3.3V). All three pins must be tied to the same voltage. Bypass each pin with 1000pF and 0.1uF capacitors as close to the pins as possible.", 11 ~{ENABLE} (in) "This pin is a logic input referenced to V-. If low, the part is enabled. If high, the part is disabled and draws approximately 1mA supply current.", 12 V- (power) "Negative Power Supply. All four pins must be connected to the same voltage/ground.", 13 +IN (in) "Positive Input. Pins 13 and 14 are internally shorted together.", 14 +IN (in) "Positive Input. Pins 13 and 14 are internally shorted together.", 15 -IN (in) "Negative Input. Pins 15 and 16 are internally shorted together.", 16 -IN (in) "Negative Input. Pins 15 and 16 are internally shorted together.", 17 EP (power) "The Exposed Pad must be connected to the same voltage/ground as pins 4, 9, 12."

## LTC6401IUD-8
designator U?
Single Channel, Low Noise, Low Distortion Differential ADC Driver for DC-140 MHz, 2200 MHz Typical GBW, 3400 V/us Typical SR, 2.85 to 3.5 V, 16-Pin QFN (UD-16), Industrial; Linear Technology Part Number: LTC6401-8; Manufacturer: Linear Technology; PartNumber: LTC6401IUD-8; Channels (#): 1; GBW (MHz) Typical: 2200; Is (mA) Typical: 45; SR (V/us) Typical: 3400; Vos (mV) Typical: 4; Vs Max (V): 3.5; Vs Min (V): 2.85; PackageReference: LT-UD-16; PackageDescription: 16-Lead Plastic QFN, Body 3.00 x 3.00 mm, Pitch 0.5 mm; Type: DIFF; Mounting Technology: Surface Mount; Code_JEDEC: MO-220; ComponentLink1Description: Manufacturer URL; ComponentLink1URL: http://www.linear.com/; ComponentLink2Description: Datasheet; ComponentLink2URL: http://cds.linear.com/docs/en/datasheet/64018f.pdf; ComponentLink3Description: Package Specification; ComponentLink3URL: http://cds.linear.com/docs/en/packaging/QFN_16_05-08-1691.pdf
footprint LT-UD-16_N (QFN, 16-Leads, Body 3x3mm, Pitch 0.5mm, Thermal Pad 1.45x1.45mm, IPC Medium Density)
footprint LT-UD-16_L (QFN, 16-Leads, Body 3x3mm, Pitch 0.5mm, Thermal Pad 1.45x1.45mm, IPC High Density)
footprint LT-UD-16_M (QFN, 16-Leads, Body 3x3mm, Pitch 0.5mm, Thermal Pad 1.45x1.45mm, IPC Low Density)
pins: 1 V+ (power) "Positive Power Supply (Normally tied to 3V or 3.3V). All three pins must be tied to the same voltage. Bypass each pin with 1000pF and 0.1uF capacitors as close to the pins as possible.", 2 VOCM (in) "This pin sets the output common mode voltage. A 0.1uF external bypass capacitor is recommended.", 3 V+ (power) "Positive Power Supply (Normally tied to 3V or 3.3V). All three pins must be tied to the same voltage. Bypass each pin with 1000pF and 0.1uF capacitors as close to the pins as possible.", 4 V- (power) "Negative Power Supply. All four pins must be connected to the same voltage/ground.", 5 -OUT (out) "Unfiltered Outputs. These pins have 12.5ohm series resistors.", 6 -OUTF (out) "Filtered Outputs. These pins have 50ohm series resistors and a 1.7pF shunt capacitance.", 7 +OUTF (out) "Filtered Outputs. These pins have 50ohm series resistors and a 1.7pF shunt capacitance.", 8 +OUT (out) "Unfiltered Outputs. These pins have 12.5ohm series resistors.", 9 V- (power) "Negative Power Supply. All four pins must be connected to the same voltage/ground.", 10 V+ (power) "Positive Power Supply (Normally tied to 3V or 3.3V). All three pins must be tied to the same voltage. Bypass each pin with 1000pF and 0.1uF capacitors as close to the pins as possible.", 11 ~{ENABLE} (in) "This pin is a logic input referenced to V-. If low, the part is enabled. If high, the part is disabled and draws approximately 1mA supply current.", 12 V- (power) "Negative Power Supply. All four pins must be connected to the same voltage/ground.", 13 +IN (in) "Positive Input. Pins 13 and 14 are internally shorted together.", 14 +IN (in) "Positive Input. Pins 13 and 14 are internally shorted together.", 15 -IN (in) "Negative Input. Pins 15 and 16 are internally shorted together.", 16 -IN (in) "Negative Input. Pins 15 and 16 are internally shorted together.", 17 EP (power) "The Exposed Pad must be connected to the same voltage/ground as pins 4, 9, 12."

## LTC6401IUD-8#PBF
designator U?
Single Channel, Low Noise, Low Distortion Differential ADC Driver for DC-140 MHz, 2200 MHz Typical GBW, 3400 V/us Typical SR, 2.85 to 3.5 V, 16-Pin QFN (UD-16), Industrial, Pb-Free; Linear Technology Part Number: LTC6401-8; Manufacturer: Linear Technology; PartNumber: LTC6401IUD-8#PBF; Channels (#): 1; GBW (MHz) Typical: 2200; Is (mA) Typical: 45; SR (V/us) Typical: 3400; Vos (mV) Typical: 4; Vs Max (V): 3.5; Vs Min (V): 2.85; PackageReference: LT-UD-16; PackageDescription: 16-Lead Plastic QFN, Body 3.00 x 3.00 mm, Pitch 0.5 mm; Supplier 1: Digi-Key; Supplier Part Number 1: LTC6401IUD-8#PBF-ND; Supplier 2: Newark; Supplier Part Number 2: 75M4556; RoHS: Pb-Free; Type: DIFF; Mounting Technology: Surface Mount; Code_JEDEC: MO-220; ComponentLink1Description: Manufacturer URL; ComponentLink1URL: http://www.linear.com/; ComponentLink2Description: Datasheet; ComponentLink2URL: http://cds.linear.com/docs/en/datasheet/64018f.pdf; ComponentLink3Description: Package Specification; ComponentLink3URL: http://cds.linear.com/docs/en/packaging/QFN_16_05-08-1691.pdf
footprint LT-UD-16_N (QFN, 16-Leads, Body 3x3mm, Pitch 0.5mm, Thermal Pad 1.45x1.45mm, IPC Medium Density)
footprint LT-UD-16_L (QFN, 16-Leads, Body 3x3mm, Pitch 0.5mm, Thermal Pad 1.45x1.45mm, IPC High Density)
footprint LT-UD-16_M (QFN, 16-Leads, Body 3x3mm, Pitch 0.5mm, Thermal Pad 1.45x1.45mm, IPC Low Density)
pins: 1 V+ (power) "Positive Power Supply (Normally tied to 3V or 3.3V). All three pins must be tied to the same voltage. Bypass each pin with 1000pF and 0.1uF capacitors as close to the pins as possible.", 2 VOCM (in) "This pin sets the output common mode voltage. A 0.1uF external bypass capacitor is recommended.", 3 V+ (power) "Positive Power Supply (Normally tied to 3V or 3.3V). All three pins must be tied to the same voltage. Bypass each pin with 1000pF and 0.1uF capacitors as close to the pins as possible.", 4 V- (power) "Negative Power Supply. All four pins must be connected to the same voltage/ground.", 5 -OUT (out) "Unfiltered Outputs. These pins have 12.5ohm series resistors.", 6 -OUTF (out) "Filtered Outputs. These pins have 50ohm series resistors and a 1.7pF shunt capacitance.", 7 +OUTF (out) "Filtered Outputs. These pins have 50ohm series resistors and a 1.7pF shunt capacitance.", 8 +OUT (out) "Unfiltered Outputs. These pins have 12.5ohm series resistors.", 9 V- (power) "Negative Power Supply. All four pins must be connected to the same voltage/ground.", 10 V+ (power) "Positive Power Supply (Normally tied to 3V or 3.3V). All three pins must be tied to the same voltage. Bypass each pin with 1000pF and 0.1uF capacitors as close to the pins as possible.", 11 ~{ENABLE} (in) "This pin is a logic input referenced to V-. If low, the part is enabled. If high, the part is disabled and draws approximately 1mA supply current.", 12 V- (power) "Negative Power Supply. All four pins must be connected to the same voltage/ground.", 13 +IN (in) "Positive Input. Pins 13 and 14 are internally shorted together.", 14 +IN (in) "Positive Input. Pins 13 and 14 are internally shorted together.", 15 -IN (in) "Negative Input. Pins 15 and 16 are internally shorted together.", 16 -IN (in) "Negative Input. Pins 15 and 16 are internally shorted together.", 17 EP (power) "The Exposed Pad must be connected to the same voltage/ground as pins 4, 9, 12."

## LTC6401IUD-8#TR
designator U?
Single Channel, Low Noise, Low Distortion Differential ADC Driver for DC-140 MHz, 2200 MHz Typical GBW, 3400 V/us Typical SR, 2.85 to 3.5 V, 16-Pin QFN (UD-16), Industrial, Reel; Linear Technology Part Number: LTC6401-8; Manufacturer: Linear Technology; PartNumber: LTC6401IUD-8#TR; Channels (#): 1; GBW (MHz) Typical: 2200; Is (mA) Typical: 45; SR (V/us) Typical: 3400; Vos (mV) Typical: 4; Vs Max (V): 3.5; Vs Min (V): 2.85; PackageReference: LT-UD-16; PackageDescription: 16-Lead Plastic QFN, Body 3.00 x 3.00 mm, Pitch 0.5 mm; Packing: Reel; Type: DIFF; Mounting Technology: Surface Mount; Code_JEDEC: MO-220; ComponentLink1Description: Manufacturer URL; ComponentLink1URL: http://www.linear.com/; ComponentLink2Description: Datasheet; ComponentLink2URL: http://cds.linear.com/docs/en/datasheet/64018f.pdf; ComponentLink3Description: Package Specification; ComponentLink3URL: http://cds.linear.com/docs/en/packaging/QFN_16_05-08-1691.pdf
footprint LT-UD-16_N (QFN, 16-Leads, Body 3x3mm, Pitch 0.5mm, Thermal Pad 1.45x1.45mm, IPC Medium Density)
footprint LT-UD-16_L (QFN, 16-Leads, Body 3x3mm, Pitch 0.5mm, Thermal Pad 1.45x1.45mm, IPC High Density)
footprint LT-UD-16_M (QFN, 16-Leads, Body 3x3mm, Pitch 0.5mm, Thermal Pad 1.45x1.45mm, IPC Low Density)
pins: 1 V+ (power) "Positive Power Supply (Normally tied to 3V or 3.3V). All three pins must be tied to the same voltage. Bypass each pin with 1000pF and 0.1uF capacitors as close to the pins as possible.", 2 VOCM (in) "This pin sets the output common mode voltage. A 0.1uF external bypass capacitor is recommended.", 3 V+ (power) "Positive Power Supply (Normally tied to 3V or 3.3V). All three pins must be tied to the same voltage. Bypass each pin with 1000pF and 0.1uF capacitors as close to the pins as possible.", 4 V- (power) "Negative Power Supply. All four pins must be connected to the same voltage/ground.", 5 -OUT (out) "Unfiltered Outputs. These pins have 12.5ohm series resistors.", 6 -OUTF (out) "Filtered Outputs. These pins have 50ohm series resistors and a 1.7pF shunt capacitance.", 7 +OUTF (out) "Filtered Outputs. These pins have 50ohm series resistors and a 1.7pF shunt capacitance.", 8 +OUT (out) "Unfiltered Outputs. These pins have 12.5ohm series resistors.", 9 V- (power) "Negative Power Supply. All four pins must be connected to the same voltage/ground.", 10 V+ (power) "Positive Power Supply (Normally tied to 3V or 3.3V). All three pins must be tied to the same voltage. Bypass each pin with 1000pF and 0.1uF capacitors as close to the pins as possible.", 11 ~{ENABLE} (in) "This pin is a logic input referenced to V-. If low, the part is enabled. If high, the part is disabled and draws approximately 1mA supply current.", 12 V- (power) "Negative Power Supply. All four pins must be connected to the same voltage/ground.", 13 +IN (in) "Positive Input. Pins 13 and 14 are internally shorted together.", 14 +IN (in) "Positive Input. Pins 13 and 14 are internally shorted together.", 15 -IN (in) "Negative Input. Pins 15 and 16 are internally shorted together.", 16 -IN (in) "Negative Input. Pins 15 and 16 are internally shorted together.", 17 EP (power) "The Exposed Pad must be connected to the same voltage/ground as pins 4, 9, 12."